# EAGLE library part 691701550012B (library Wurth_Elektronik_Electromechanic_Terminal_Blocks_Connectors_rev15c)
WR-TBL Serie 7015 – 5.08mm Close Horizontal PCB Header With Flanges, 12 Pins=>Code : Con_TBL_Pluggable_5.08_PCB_THR_691701550012B <http://katalog.we-online.de/media/images/eican/Con_TBL_Pluggable_5.08_PCB_THR_6917015500xx_pf2.jpg> Details see: http://katalog.we-online.de/en/em/691_701_550_0xxB Created 2014-06-25, Karrer Zheng 2014 (C) Würth Elektronik
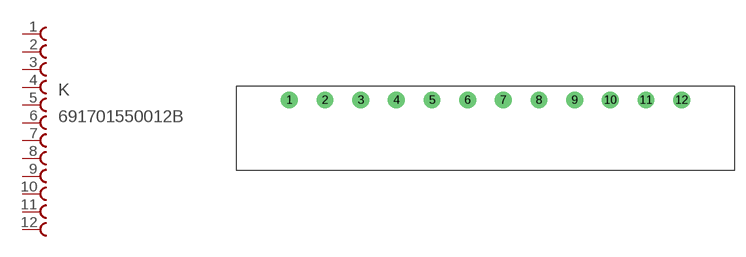
[diagram p394: symbol with the pads of 691701550012B; footprint 691701550012B]

Designator prefix K

## 691701550012B  [691701550012B]
1  1  pas
2  2  pas
3  3  pas
4  4  pas
5  5  pas
6  6  pas
7  7  pas
8  8  pas
9  9  pas
10  10  pas
11  11  pas
12  12  pas

## Footprint 691701550012B (pad centres in mm)
WR-TBL Serie 7015 – 5.08mm Close Horizontal PCB Header With Flanges, 12 Pins
drill 1.6: 1 0,0; 2 5.08,0; 3 10.16,0; 4 15.24,0; 5 20.32,0; 6 25.4,0; 7 30.48,0; 8 35.56,0; 9 40.64,0; 10 45.72,0; 11 50.8,0; 12 55.88,0